# Altium schematic symbol library PSM712.SchLib: 1 symbol
Pins are listed as number, name and electrical type; pins without a type are passive.

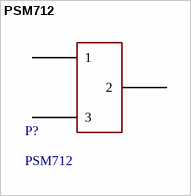
[diagram p0: symbol PSM712]

## PSM712
designator P?
footprint SOT23C (SOT 23C - 2-3-1 - BCE)
pins: 1, 2, 3